# Altium footprint library Phone.PcbLib: 21 footprints (part 2 of 2)
Each footprint in its own frame and in the unit in brackets; x right, y up, seen from the top. Pads: shape width x height; smd on the part's side, far side on the other; paste and mask are expansions set on the pad; w line width, h text height; cw(c..) or ccw(c..) is an arc to the next point about the centre after c.
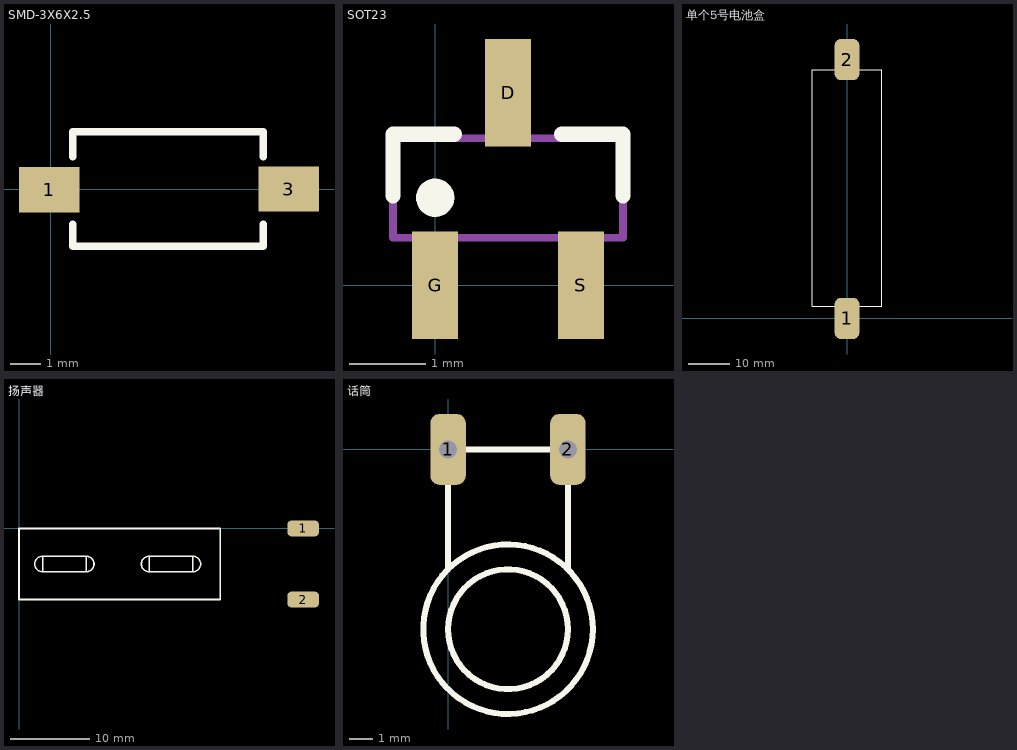
[diagram p1: the footprints below, top view; thin cyan lines are the x and y axes]

## SMD-3X6X2.5 [mm]
pads (2):
  rect 2x1.5 smd: 1(-0.059,-0.02) 3(7.874,0)
Top Overlay:
  lines w0.254: 0.725,-1.168 0.725,-1.9 7.025,-1.9 7.025,-1.168 ; 0.725,1.067 0.725,1.9 7.025,1.9 7.025,1.067
3D body "SMD-3X6X2.5.STEP": height 2.59, standoff -0.03, extent -0.19,-1.778 7.81,1.722

## SOT23 [mm]
height 1.1
pads (3):
  rect 0.6x1.4 smd: D(0.95,2.514) G(0,0) S(1.9,0)
Top Overlay:
  circle w0.25: c0,1.143 r0.125
  lines w0.2: -0.55,1.17 -0.55,1.97 0.25,1.97 ; 1.65,1.97 2.45,1.97 2.45,1.17
Mechanical 13:
  lines w0.1: -0.55,0.62 -0.55,1.92 2.45,1.92 2.45,0.62 -0.55,0.62
3D body "SOT23-3.STEP": height 1.05, standoff 0, extent -0.559,0.222 2.441,2.622

## 单个5号电池盒 [mm]
height 1.1
pads (2):
  rrect50% 6x10 smd: 1(0,0) 2(0,63)
Top Overlay:
  lines w0.2: -8.5,3 -8.5,60.5 8.5,60.5 8.5,3 -8.5,3

## 扬声器 [mm]
height 1.1
pads (2):
  rrect50% 4x2 smd: 1(36,0) 2(36,-9)
Top Overlay:
  lines w0.2: 25.4,-9 0,-9 0,0 25.4,0 ; 25.5,-9 25.5,0 ; 3,-5.5 cw(c3,-4.5) 3,-3.5 ; 3,-5.5 8.5,-5.5 ; 3,-5.5 3,-3.5 ; 3,-3.5 8.5,-3.5 ; 8.5,-5.5 ccw(c8.5,-4.5) 8.5,-3.5 ; 8.5,-5.5 8.5,-3.5 ; 16.5,-5.5 cw(c16.5,-4.5) 16.5,-3.5 ; 16.5,-5.5 16.5,-3.5 ; 16.5,-5.5 22,-5.5 ; 16.5,-3.5 22,-3.5 ; 22,-5.5 ccw(c22,-4.5) 22,-3.5 ; 22,-5.5 22,-3.5

## 话筒 [mm]
height 1.1
pads (2):
  rrect50% 1.5x3 hole 0.762: 1(0,0) 2(5.08,0)
Top Overlay:
  circle w0.254: c2.54,-7.62 r2.54
  circle w0.254: c2.54,-7.62 r3.592
  lines w0.254: 0,-5.08 0,0 5.08,0 5.08,-5.08